# EAGLE library part BOB-09118 (library Optoisolation)
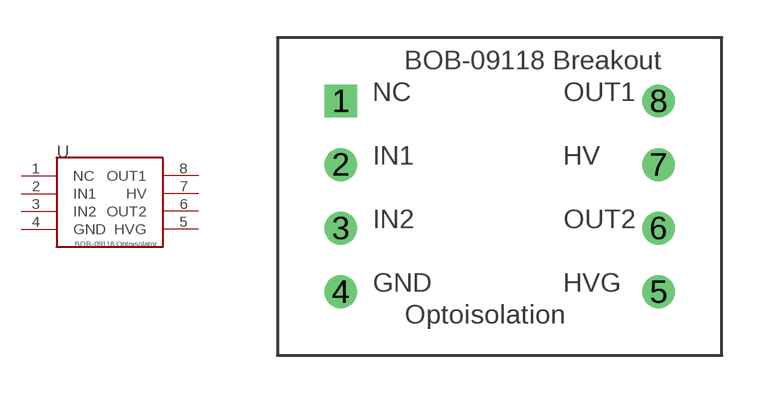
[diagram p0: symbol with the pads of DIL08-0.1P-6W; footprint DIL08-0.1P-6W]

Designator prefix U

## BOB-09118  [DIL08-0.1P-6W]
1  NC
2  IN1
3  IN2
4  GND
5  HVG
6  OUT2
7  HV
8  OUT1

## Footprint DIL08-0.1P-6W (pad centres in mm)
drill 0.8 square: 1 -5.08,5.08
drill 0.8: 2 -5.08,2.54; 3 -5.08,0; 4 -5.08,-2.54; 5 7.62,-2.54; 6 7.62,0; 7 7.62,2.54; 8 7.62,5.08